# Altium footprint library DSO.PcbLib: 2 footprints
Each footprint in its own frame and in the unit in brackets; x right, y up, seen from the top. Pads: shape width x height; smd on the part's side, far side on the other; paste and mask are expansions set on the pad; w line width, h text height; cw(c..) or ccw(c..) is an arc to the next point about the centre after c.
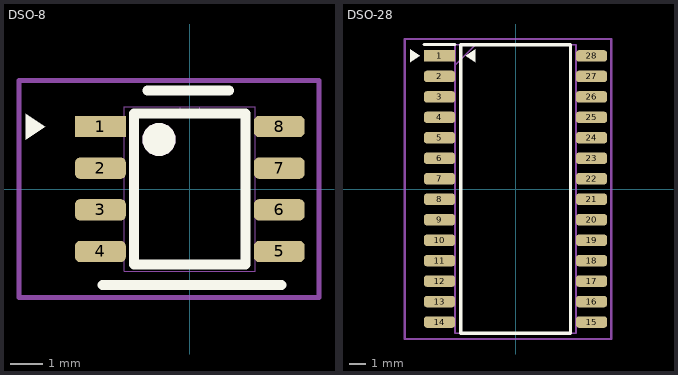
[diagram p0: the footprints below, top view; thin cyan lines are the x and y axes]

## DSO-8 [mm]
pads (8):
  rect 1.55x0.65 smd: 1(-2.725,1.905)
  rrect50% 1.55x0.65 smd: 2(-2.725,0.635) 3(-2.725,-0.635) 4(-2.725,-1.905) 5(2.725,-1.905) 6(2.725,-0.635) 7(2.725,0.635) 8(2.725,1.905)
Top Overlay:
  region: -1.438,1.509 -1.438,1.409 -1.362,1.225 -1.221,1.085 -1.038,1.009 -0.938,1.009 -0.839,1.009 -0.655,1.085 -0.514,1.225 -0.438,1.409 -0.438,1.509 -0.438,1.608 -0.514,1.792 -0.655,1.933 -0.839,2.009 -0.938,2.009 -1.038,2.009 -1.221,1.933 -1.362,1.792 -1.438,1.608
  region: -5,2.3 -5,1.5 -4.4,1.9
  lines w0.3: -2.667,-2.921 2.794,-2.921 ; -1.3,3 1.2,3 ; -1.7,-2.3 -1.7,2.3 1.7,2.3 1.7,-2.3 -1.7,-2.3
Top Assembly:
  region: -1.438,1.509 -1.438,1.409 -1.362,1.225 -1.221,1.085 -1.038,1.009 -0.938,1.009 -0.839,1.009 -0.655,1.085 -0.514,1.225 -0.438,1.409 -0.438,1.509 -0.438,1.608 -0.514,1.792 -0.655,1.933 -0.839,2.009 -0.938,2.009 -1.038,2.009 -1.221,1.933 -1.362,1.792 -1.438,1.608
  lines w0: -0.305,2.502 ccw(c0,2.502) 0.305,2.502
  lines w0.025: -3.099,-2.146 -1.994,-2.146 -1.994,-1.664 -3.099,-1.664 -3.099,-2.146 ; -3.099,-0.876 -1.994,-0.876 -1.994,-0.394 -3.099,-0.394 -3.099,-0.876 ; -3.099,0.394 -3.099,0.876 -1.994,0.876 -1.994,0.394 -3.099,0.394 ; -3.099,1.664 -1.994,1.664 -1.994,2.146 -3.099,2.146 -3.099,1.664 ; -1.994,-2.502 -1.994,2.502 1.994,2.502 1.994,-2.502 -1.994,-2.502 ; 1.994,-2.146 3.099,-2.146 3.099,-1.664 1.994,-1.664 1.994,-2.146 ; 1.994,-0.876 3.099,-0.876 3.099,-0.394 1.994,-0.394 1.994,-0.876 ; 1.994,0.394 3.099,0.394 3.099,0.876 1.994,0.876 1.994,0.394 ; 1.994,1.664 3.099,1.664 3.099,2.146 1.994,2.146 1.994,1.664
Top Component Outline:
  lines w0.152: -5.207,-3.302 -5.207,3.302 3.937,3.302 3.937,-3.302 -5.207,-3.302
3D body "2ED2103S06FXUMA1.stp": height 1.72, standoff 0, extent -3,-2.45 3,2.45

## DSO-28 [mm]
pads (28):
  rect 1.925x0.7 smd: 1(-4.712,8.255)
  rrect50% 1.925x0.7 smd: 2(-4.712,6.985) 3(-4.712,5.715) 4(-4.712,4.445) 5(-4.712,3.175) 6(-4.712,1.905) 7(-4.712,0.635) 8(-4.712,-0.635) 9(-4.712,-1.905) 10(-4.712,-3.175) 11(-4.712,-4.445) 12(-4.712,-5.715) 13(-4.712,-6.985) 14(-4.712,-8.255) 15(4.712,-8.255) 16(4.712,-6.985) 17(4.712,-5.715) 18(4.712,-4.445) 19(4.712,-3.175) 20(4.712,-1.905) 21(4.712,-0.635) 22(4.712,0.635) 23(4.712,1.905) 24(4.712,3.175) 25(4.712,4.445) 26(4.712,5.715) 27(4.712,6.985) 28(4.712,8.255)
Top Overlay:
  region: -2.493,7.86 -2.493,8.66 -3.093,8.26
  region: -6.524,8.65 -6.524,7.85 -5.924,8.25
  lines w0.2: -5.675,8.955 -3.75,8.955 ; -3.4,-8.95 -3.4,8.95 3.4,8.95 3.4,-8.95 -3.4,-8.95
Top Assembly:
  lines w0.1: -3.75,7.68 -2.48,8.95 ; -3.75,-8.95 -3.75,8.95 3.75,8.95 3.75,-8.95 -3.75,-8.95
Top 3D Body:
  lines w0.152: -6.858,-9.3 -6.858,9.3 5.925,9.3 5.925,-9.3 -6.858,-9.3
3D body "6ED003L02F2XUMA1.stp": height 2.65, standoff 0, extent -5.158,-8.95 5.158,8.95